# Altium schematic symbol library SCH - ARM CORTEX - STM STM8AL31E89Tx.SchLib: 1 symbol
Pins are listed as number, name and electrical type; pins without a type are passive.

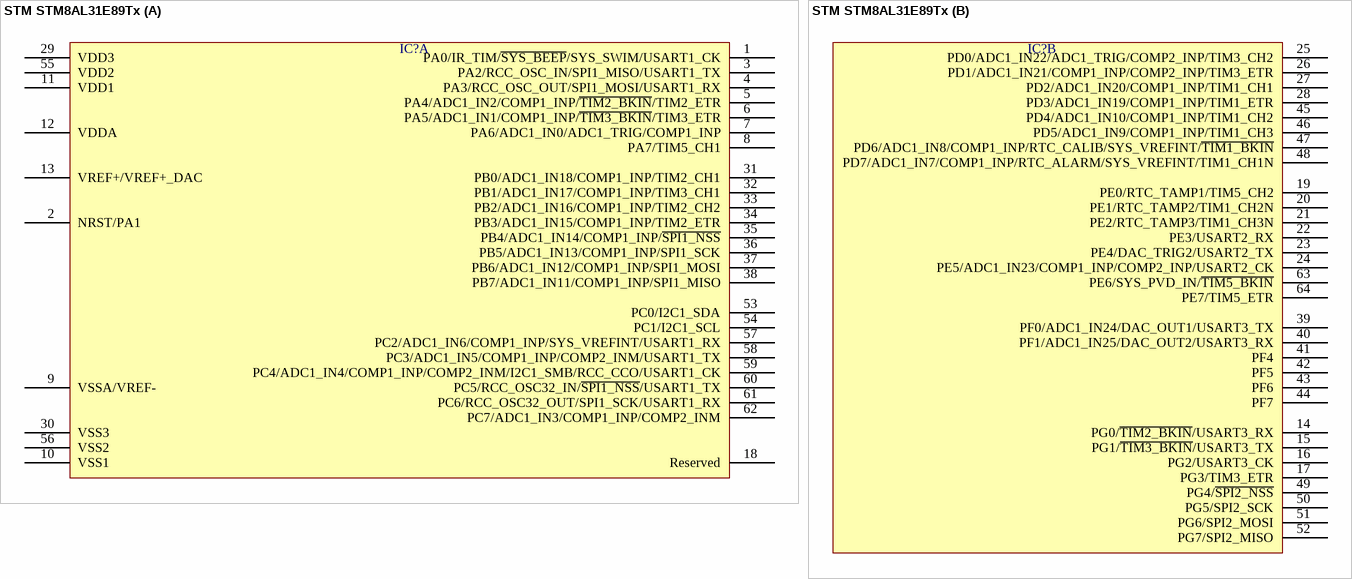
[diagram p0: symbol STM STM8AL31E89Tx]

## STM STM8AL31E89Tx
designator IC?  (value not drawn)
part A pins: 1 PA0/IR_TIM/~{SYS_BEEP}/SYS_SWIM/USART1_CK, 2 NRST/PA1, 3 PA2/RCC_OSC_IN/SPI1_MISO/USART1_TX, 4 PA3/RCC_OSC_OUT/SPI1_MOSI/USART1_RX, 5 PA4/ADC1_IN2/COMP1_INP/~{TIM2_BKIN}/TIM2_ETR, 6 PA5/ADC1_IN1/COMP1_INP/~{TIM3_BKIN}/TIM3_ETR, 7 PA6/ADC1_IN0/ADC1_TRIG/COMP1_INP, 8 PA7/TIM5_CH1, 9 VSSA/VREF-, 10 VSS1, 11 VDD1, 12 VDDA, 13 VREF+/VREF+_DAC, 18 Reserved, 29 VDD3, 30 VSS3, 31 PB0/ADC1_IN18/COMP1_INP/TIM2_CH1, 32 PB1/ADC1_IN17/COMP1_INP/TIM3_CH1, 33 PB2/ADC1_IN16/COMP1_INP/TIM2_CH2, 34 PB3/ADC1_IN15/COMP1_INP/TIM2_ETR, 35 PB4/ADC1_IN14/COMP1_INP/~{SPI1_NSS}, 36 PB5/ADC1_IN13/COMP1_INP/SPI1_SCK, 37 PB6/ADC1_IN12/COMP1_INP/SPI1_MOSI, 38 PB7/ADC1_IN11/COMP1_INP/SPI1_MISO, 53 PC0/I2C1_SDA, 54 PC1/I2C1_SCL, 55 VDD2, 56 VSS2, 57 PC2/ADC1_IN6/COMP1_INP/SYS_VREFINT/USART1_RX, 58 PC3/ADC1_IN5/COMP1_INP/COMP2_INM/USART1_TX, 59 PC4/ADC1_IN4/COMP1_INP/COMP2_INM/I2C1_SMB/RCC_CCO/USART1_CK, 60 PC5/RCC_OSC32_IN/~{SPI1_NSS}/USART1_TX, 61 PC6/RCC_OSC32_OUT/SPI1_SCK/USART1_RX, 62 PC7/ADC1_IN3/COMP1_INP/COMP2_INM
part B pins: 14 PG0/~{TIM2_BKIN}/USART3_RX, 15 PG1/~{TIM3_BKIN}/USART3_TX, 16 PG2/USART3_CK, 17 PG3/TIM3_ETR, 19 PE0/RTC_TAMP1/TIM5_CH2, 20 PE1/RTC_TAMP2/TIM1_CH2N, 21 PE2/RTC_TAMP3/TIM1_CH3N, 22 PE3/USART2_RX, 23 PE4/DAC_TRIG2/USART2_TX, 24 PE5/ADC1_IN23/COMP1_INP/COMP2_INP/USART2_CK, 25 PD0/ADC1_IN22/ADC1_TRIG/COMP2_INP/TIM3_CH2, 26 PD1/ADC1_IN21/COMP1_INP/COMP2_INP/TIM3_ETR, 27 PD2/ADC1_IN20/COMP1_INP/TIM1_CH1, 28 PD3/ADC1_IN19/COMP1_INP/TIM1_ETR, 39 PF0/ADC1_IN24/DAC_OUT1/USART3_TX, 40 PF1/ADC1_IN25/DAC_OUT2/USART3_RX, 41 PF4, 42 PF5, 43 PF6, 44 PF7, 45 PD4/ADC1_IN10/COMP1_INP/TIM1_CH2, 46 PD5/ADC1_IN9/COMP1_INP/TIM1_CH3, 47 PD6/ADC1_IN8/COMP1_INP/RTC_CALIB/SYS_VREFINT/~{TIM1_BKIN}, 48 PD7/ADC1_IN7/COMP1_INP/RTC_ALARM/SYS_VREFINT/TIM1_CH1N, 49 PG4/~{SPI2_NSS}, 50 PG5/SPI2_SCK, 51 PG6/SPI2_MOSI, 52 PG7/SPI2_MISO, 63 PE6/SYS_PVD_IN/~{TIM5_BKIN}, 64 PE7/TIM5_ETR